# Altium footprint library LED_SSL-LX4673GD-LA20.PcbLib: 1 footprints
Each footprint in its own frame and in the unit in brackets; x right, y up, seen from the top. Pads: shape width x height; smd on the part's side, far side on the other; paste and mask are expansions set on the pad; w line width, h text height; cw(c..) or ccw(c..) is an arc to the next point about the centre after c.
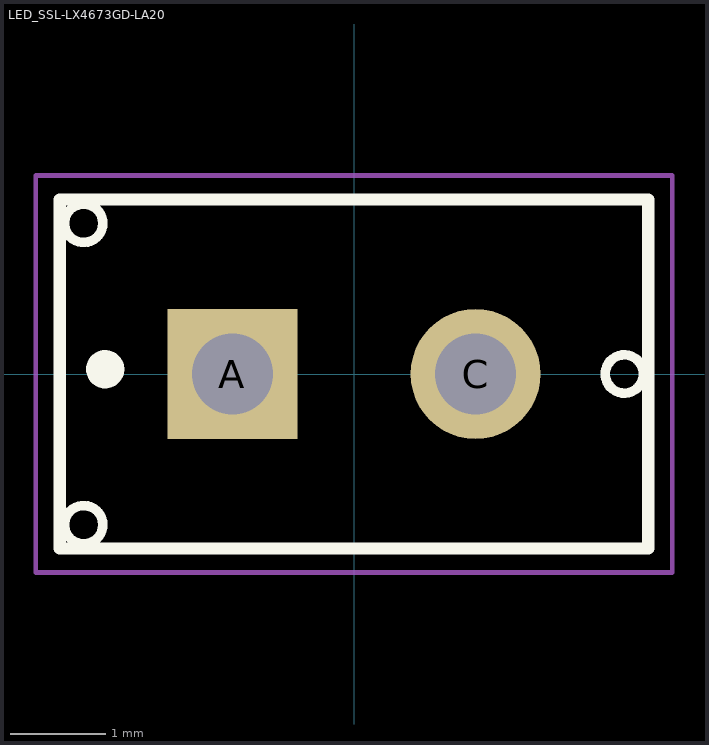
[diagram p0: the footprint, top view; thin cyan lines are the x and y axes]

## LED_SSL-LX4673GD-LA20 [mm]
pads (2):
  rect 1.358x1.358 / inner round 1.358 / far side rect 1.358x1.358 hole 0.85 mask+0.102: A(-1.27,0)
  round 1.358 hole 0.85 mask+0.102: C(1.27,0)
Top Overlay:
  circle w0.2: c-2.6,0.05 r0.1
  circle w0.1: c-2.825,-1.575 r0.2
  circle w0.1: c-2.825,1.575 r0.2
  circle w0.1: c2.825,0 r0.2
  lines w0.127: -3.075,-1.825 -3.075,1.825 3.075,1.825 3.075,-1.825 -3.075,-1.825
Courtyard Top:
  lines w0.05: -3.325,-2.075 -3.325,2.075 3.325,2.075 3.325,-2.075 -3.325,-2.075